# EAGLE library part 556591-1 (library con-amp)
AMP connector
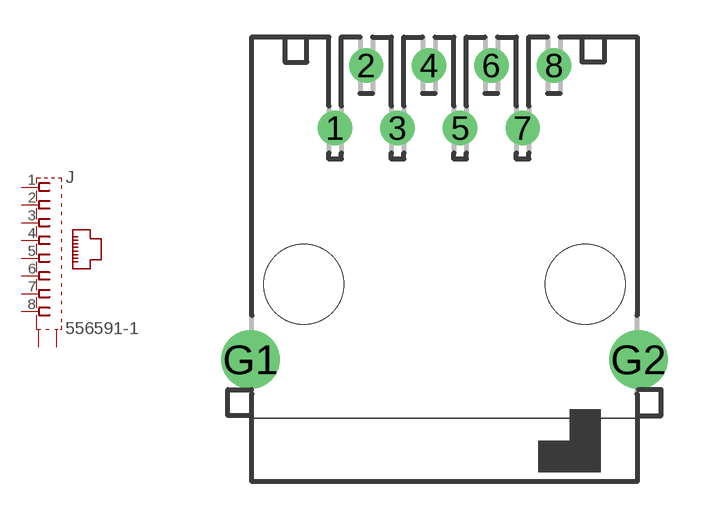
[diagram p78: symbol with the pads of 556591-1; footprint 556591-1]

Designator prefix J

## 556591-1 (MF: TYCO ELECTRONICS; MPN: 5556591-1; OC_FARNELL: 1771145; OC_NEWARK: 42K7303)  [556591-1]
1  1  pas
2  2  pas
3  3  pas
4  4  pas
5  5  pas
6  6  pas
7  7  pas
8  8  pas
G1  S1  pas
G2  S2  pas

## Footprint 556591-1 (pad centres in mm)
Modular Jack PC Board Ground
drill 0.889 round: 1 -4.445,6.35; 2 -3.175,8.89; 3 -1.905,6.35; 4 -0.635,8.89; 5 0.635,6.35; 6 1.905,8.89; 7 3.175,6.35; 8 4.445,8.89
drill 1.575 pad 2.184 round: G1 -7.874,-3.048; G2 7.874,-3.048
hole 3.251 at -5.715,0
hole 3.251 at 5.715,0